# Altium footprint library HO2.8-1B wider.PcbLib: 1 footprints
Each footprint in its own frame and in the unit in brackets; x right, y up, seen from the top. Pads: shape width x height; smd on the part's side, far side on the other; paste and mask are expansions set on the pad; w line width, h text height; cw(c..) or ccw(c..) is an arc to the next point about the centre after c.
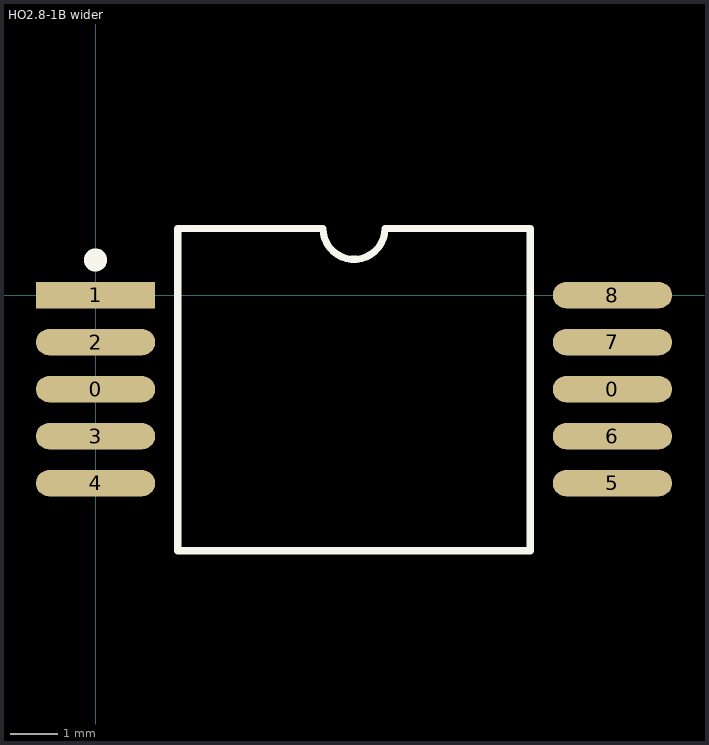
[diagram p0: the footprint, top view; thin cyan lines are the x and y axes]

## HO2.8-1B wider [mm]
pads (10):
  oval 2.54x0.559 smd: 0(0,-2) 0(11,-2) 2(0,-1) 3(0,-3) 4(0,-4) 5(11,-4) 6(11,-3) 7(11,-1) 8(11,0)
  rect 2.54x0.559 smd: 1(0,0)
Top Overlay:
  circle w0.254: c0,0.75 r0.119
  lines w0.152: 9.25,1.422 9.25,-5.436 1.75,-5.436 1.75,-2.824 1.75,-1.189 1.75,1.422 4.84,1.422 ccw(c5.5,1.422) 6.16,1.422 9.25,1.422
3D body "N02.8-1B.STEP": height 2.9, standoff 0, extent 1.25,-5.25 9.75,1.25